# EAGLE library part SDRAM (library balto)
SDRAM
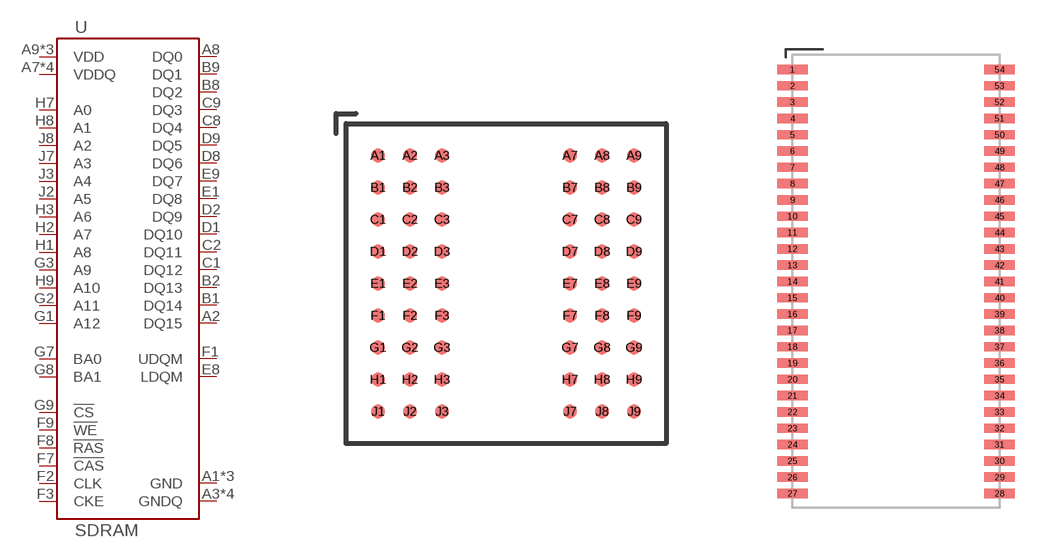
[diagram p73: symbol with the pads of TF-BGA54; footprints TF-BGA54, TSOP-54]

Designator prefix U

## SDRAM-BGA  [TF-BGA54]
A1  GND
A2  DQ15
A3  GNDQ
A7  VDDQ
A8  DQ0
A9  VDD
B1  DQ14
B2  DQ13
B3  VDDQ
B7  GNDQ
B8  DQ2
B9  DQ1
C1  DQ12
C2  DQ11
C3  GNDQ
C7  VDDQ
C8  DQ4
C9  DQ3
D1  DQ10
D2  DQ9
D3  VDDQ
D7  GNDQ
D8  DQ6
D9  DQ5
E1  DQ8
E3  GND
E7  VDD
E8  LDQM
E9  DQ7
F1  UDQM
F2  CLK
F3  CKE
F7  !CAS
F8  !RAS
F9  !WE
G1  A12
G2  A11
G3  A9
G7  BA0
G8  BA1
G9  !CS
H1  A8
H2  A7
H3  A6
H7  A0
H8  A1
H9  A10
J1  GND
J2  A5
J3  A4
J7  A3
J8  A2
J9  VDD

## SDRAM-TSOP  [TSOP-54]
1  VDD
2  DQ0
3  VDDQ
4  DQ1
5  DQ2
6  GNDQ
7  DQ3
8  DQ4
9  VDDQ
10  DQ5
11  DQ6
12  GNDQ
13  DQ7
14  VDD
15  LDQM
16  !WE
17  !CAS
18  !RAS
19  !CS
20  BA0
21  BA1
22  A10
23  A0
24  A1
25  A2
26  A3
27  VDD
28  GND
29  A4
30  A5
31  A6
32  A7
33  A8
34  A9
35  A11
36  A12
37  CKE
38  CLK
39  UDQM
41  GND
42  DQ8
43  VDDQ
44  DQ9
45  DQ10
46  GNDQ
47  DQ11
48  DQ12
49  VDDQ
50  DQ13
51  DQ14
52  GNDQ
53  DQ15
54  GND

## Footprint TF-BGA54 (pad centres in mm)
54-ball TF-BGA 8.00 mm x 13.00 mm Body, 0.8 mm Ball Pitch
smd 0.35 x 0.35: A1 -3.2,3.2; A2 -2.4,3.2; A3 -1.6,3.2; A7 1.6,3.2; A8 2.4,3.2; A9 3.2,3.2; B1 -3.2,2.4; B2 -2.4,2.4; B3 -1.6,2.4; B7 1.6,2.4; B8 2.4,2.4; B9 3.2,2.4; C1 -3.2,1.6; C2 -2.4,1.6; C3 -1.6,1.6; C7 1.6,1.6; C8 2.4,1.6; C9 3.2,1.6; D1 -3.2,0.8; D2 -2.4,0.8; D3 -1.6,0.8; D7 1.6,0.8; D8 2.4,0.8; D9 3.2,0.8; E1 -3.2,0; E2 -2.4,0; E3 -1.6,0; E7 1.6,0; E8 2.4,0; E9 3.2,0; F1 -3.2,-0.8; F2 -2.4,-0.8; F3 -1.6,-0.8; F7 1.6,-0.8; F8 2.4,-0.8; F9 3.2,-0.8; G1 -3.2,-1.6; G2 -2.4,-1.6; G3 -1.6,-1.6; G7 1.6,-1.6; G8 2.4,-1.6; G9 3.2,-1.6; H1 -3.2,-2.4; H2 -2.4,-2.4; H3 -1.6,-2.4; H7 1.6,-2.4; H8 2.4,-2.4; H9 3.2,-2.4; J1 -3.2,-3.2; J2 -2.4,-3.2; J3 -1.6,-3.2; J7 1.6,-3.2; J8 2.4,-3.2; J9 3.2,-3.2

## Footprint TSOP-54 (pad centres in mm)
54 pin TSOP
smd 1.51 x 0.458: 1 -5.08,10.4; 2 -5.08,9.6; 3 -5.08,8.8; 4 -5.08,8; 5 -5.08,7.2; 6 -5.08,6.4; 7 -5.08,5.6; 8 -5.08,4.8; 9 -5.08,4; 10 -5.08,3.2; 11 -5.08,2.4; 12 -5.08,1.6; 13 -5.08,0.8; 14 -5.08,0; 15 -5.08,-0.8; 16 -5.08,-1.6; 17 -5.08,-2.4; 18 -5.08,-3.2; 19 -5.08,-4; 20 -5.08,-4.8; 21 -5.08,-5.6; 22 -5.08,-6.4; 23 -5.08,-7.2; 24 -5.08,-8; 25 -5.08,-8.8; 26 -5.08,-9.6; 27 -5.08,-10.4; 28 5.08,-10.4; 29 5.08,-9.6; 30 5.08,-8.8; 31 5.08,-8; 32 5.08,-7.2; 33 5.08,-6.4; 34 5.08,-5.6; 35 5.08,-4.8; 36 5.08,-4; 37 5.08,-3.2; 38 5.08,-2.4; 39 5.08,-1.6; 40 5.08,-0.8; 41 5.08,0; 42 5.08,0.8; 43 5.08,1.6; 44 5.08,2.4; 45 5.08,3.2; 46 5.08,4; 47 5.08,4.8; 48 5.08,5.6; 49 5.08,6.4; 50 5.08,7.2; 51 5.08,8; 52 5.08,8.8; 53 5.08,9.6; 54 5.08,10.4